# Altium footprint library Blinky_Stick.PcbLib: 8 footprints
Each footprint in its own frame and in the unit in brackets; x right, y up, seen from the top. Pads: shape width x height; smd on the part's side, far side on the other; paste and mask are expansions set on the pad; w line width, h text height; cw(c..) or ccw(c..) is an arc to the next point about the centre after c.
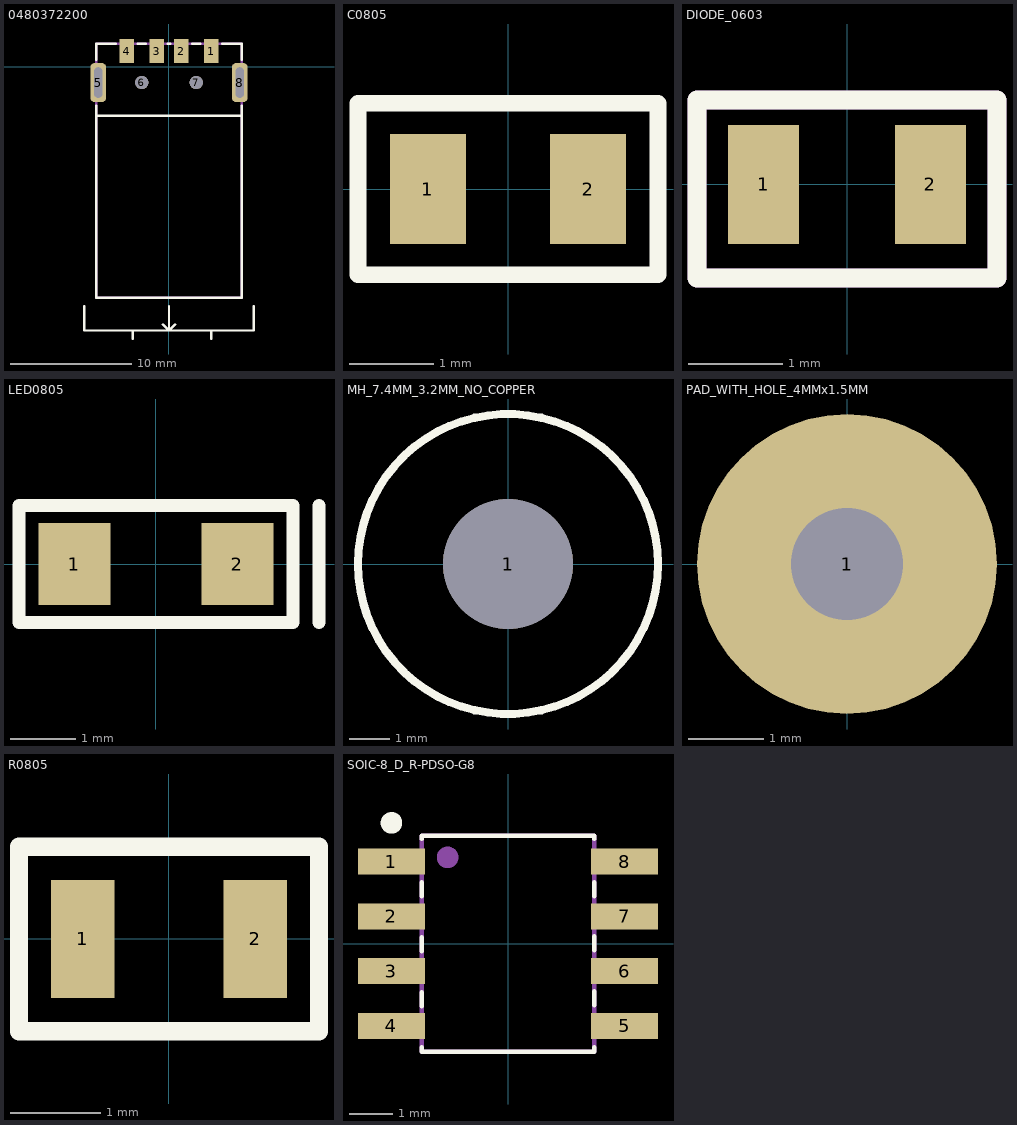
[diagram p0: the footprints below, top view; thin cyan lines are the x and y axes]

## 0480372200 [mm]
pads (8):
  rect 1.2x2 smd: 1(3.48,1.3) 2(1,1.3) 3(-1,1.3) 4(-3.5,1.3)
  rrect50% 1.3x3.2 hole 0.7 slot 2.5 at 90 deg: 5(-5.85,-1.3) 8(5.85,-1.3)
  round 1.1 hole 1.1 unplated: 6(-2.25,-1.3) 7(2.25,-1.3)
Top Overlay:
  lines w0.2: -7,-19.8 -7,-20.8 -7,-21.8 7,-21.8 7,-20.9 7,-19.8 ; -6,-3.2 -6,-19.1 6,-19.1 6,-3.2 ; -6,0.6 -6,1.9 -4.4,1.9 ; -5.95,-4.05 5.1,-4.05 5.85,-4.05 ; -3,-22.5 -3,-21.8 ; -2.6,1.9 -1.9,1.9 ; -0.5,-21.3 0,-21.8 ; -0.1,1.9 0.1,1.9 ; 0,-19.8 0,-21.8 ; 0.5,-21.3 0,-21.8 ; 1.9,1.9 2.6,1.9 ; 3.5,-22.5 3.5,-21.8 ; 4.4,1.9 6,1.9 6,0.6 ; 5.475,-4.05 5.95,-4.05
Mechanical 29:
  lines w0.2: -6,-19.1 6,-19.1 6,1.9 -6,1.9 -6,-19.1
  text ".Designator" at -1.1,-1.1 h1.2
3D body: height 2.11, standoff -2.39, extent -6.025,-19.075 6.025,1.875

## C0805 [mm]
pads (2):
  rect 0.9x1.3 smd: 1(-0.95,0) 2(0.95,0)
Top Overlay:
  lines w0.2: -1.778,-1.016 -1.778,1.016 1.778,1.016 1.778,-1.016 -1.778,-1.016
Mechanical 29:
  lines w0.15: -1.778,-1.016 -1.778,1.016 1.778,1.016 1.778,-1.016 -1.778,-1.016
  text ".Designator" at -0.762,-0.508 h1.2
3D body: height 1.28, standoff 0.01, extent -1,-0.6 1,0.6

## DIODE_0603 [mm]
pads (2):
  rect 0.76x1.27 smd: 1(-0.89,0) 2(0.89,0)
Top Overlay:
  lines w0.2: -1.6,-1 -1.6,0.9 1.6,0.9 1.6,-1 -1.6,-1
Mechanical 29:
  lines w0.2: -1.6,-1 -1.6,0.9 1.6,0.9 1.6,-1 -1.6,-1
  text ".Designator" at -0.8,-0.5 h1
3D body: height 0.46, standoff 0.01, extent -0.775,-0.43 0.775,0.43

## LED0805 [mm]
pads (2):
  rect 1.1x1.25 smd: 1(-1.25,0) 2(1.25,0)
Top Overlay:
  lines w0.2: 2.5,-0.9 2.5,0.9 ; -2.1,-0.9 2.1,-0.9 2.1,0.9 -2.1,0.9 -2.1,-0.9
Mechanical 29:
  lines w0.1: 2.5,-0.9 2.5,0.9 ; -2.1,-0.9 -2.1,0.9 2.1,0.9 2.1,-0.9 -2.1,-0.9
  text ".Designator" at -1.2,-0.6 h1.2
3D body: height 1.1, standoff 0, extent -1.01,-0.625 1.01,0.625

## MH_7.4MM_3.2MM_NO_COPPER [mm]
pads (1):
  round 3.2 hole 3.2 unplated: 1(0,0)
Top Overlay:
  circle w0.2: c0,0 r3.7

## PAD_WITH_HOLE_4MMx1.5MM [mm] "Pad with hole 4mm x 1.5mm"
pads (1):
  round 4 hole 1.5: 1(0,0)

## R0805 [mm]
pads (2):
  rect 0.7x1.3 smd: 1(-0.95,0) 2(0.95,0)
Top Overlay:
  lines w0.2: -1.651,-1.016 -1.651,1.016 1.651,1.016 1.651,-1.016 -1.651,-1.016
Mechanical 29:
  lines w0.15: -1.651,-1.016 1.651,-1.016 1.651,1.016 -1.651,1.016 -1.651,-1.016
  text ".Designator" at -0.762,-0.508 h1.2
3D body: height 0.71, standoff 0.01, extent -1,-0.6 1,0.6

## SOIC-8_D_R-PDSO-G8 [mm]
pads (8):
  rect 1.55x0.6 smd mask+0.07: 1(-2.7,1.905) 2(-2.7,0.635) 3(-2.7,-0.635) 4(-2.7,-1.905) 5(2.7,-1.905) 6(2.7,-0.635) 7(2.7,0.635) 8(2.7,1.905)
Top Overlay:
  circle w0.3: c-2.7,2.8 r0.1
  lines w0.1: -2,-2.4 -2,-2.5 2,-2.5 2,-2.4 ; -2,-1.45 -2,-1.125 ; -2,-0.175 -2,0.15 ; -2,1.1 -2,1.425 ; -2,2.425 -2,2.5 2,2.5 2,2.425 ; 2,-1.425 2,-1.1 ; 2,-0.15 2,0.175 ; 2,1.1 2,1.425
Mechanical 29:
  circle w0.3: c-1.4,2 r0.1
  lines w0.1: -2,-2.5 2,-2.5 2,2.5 -2,2.5 -2,-2.5
  text ".Designator" at -1.2,-0.4 h1.2
3D body: height 1.75, standoff 0, extent -3.114,-2.5 3.115,2.5